# EAGLE library part DIP-BLACK-SHORT-MALE-HEADER-R/A(6P-2.54-90D) (library OPL-Connector)
320020019
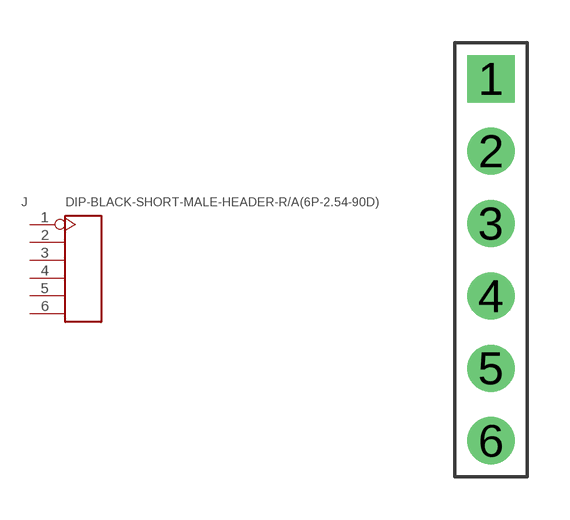
[diagram p8: symbol with the pads of H6-2.54-90D-MALE; footprint H6-2.54-90D-MALE]

Designator prefix J

## DIP-BLACK-SHORT-MALE-HEADER-R/A(6P-2.54-90D)  [H6-2.54-90D-MALE]
1  1
2  2
3  3
4  4
5  5
6  6

## Footprint H6-2.54-90D-MALE (pad centres in mm)
drill 0.889 pad 1.651 square: 1 0,6.35
drill 0.889 pad 1.651: 2 0,3.81; 3 0,1.27; 4 0,-1.27; 5 0,-3.81; 6 0,-6.35